# Altium footprint library AMSMQTT.PcbLib: 6 footprints
Each footprint in its own frame and in the unit in brackets; x right, y up, seen from the top. Pads: shape width x height; smd on the part's side, far side on the other; paste and mask are expansions set on the pad; w line width, h text height; cw(c..) or ccw(c..) is an arc to the next point about the centre after c.
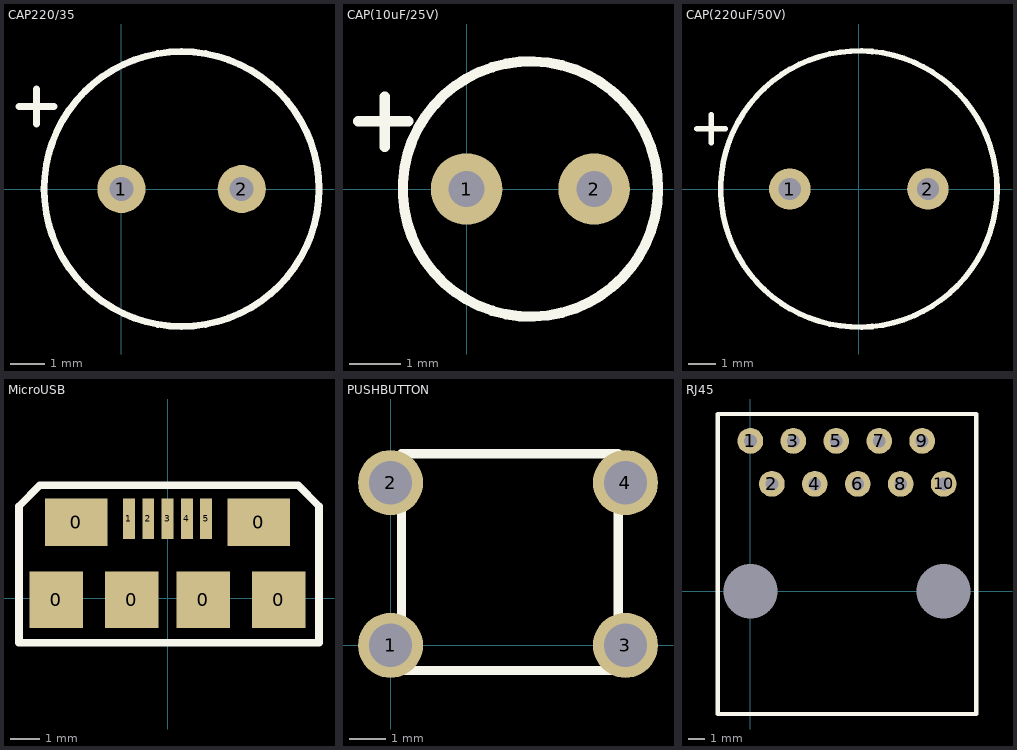
[diagram p0: the footprints below, top view; thin cyan lines are the x and y axes]

## CAP220/35 [mm]
pads (2):
  round 1.4 hole 0.7: 1(0,0) 2(3.5,0)
Top Overlay:
  circle w0.2: c1.75,0 r4
  lines w0.2: -2.983,2.4 -1.967,2.4 ; -2.475,1.892 -2.475,2.908
3D body: height 11.5, standoff 0, extent -2.2,-4 5.8,4

## CAP(10uF/25V) [mm]
pads (2):
  round 1.4 hole 0.7: 1(0,0) 2(2.5,0)
Top Overlay:
  circle w0.2: c1.25,0 r2.5
  lines w0.2: -2.125,1.325 -1.142,1.325 ; -1.6,0.825 -1.6,1.808
3D body: height 11, standoff 0, extent -1.225,-2.55 3.775,2.447

## CAP(220uF/50V) [mm]
pads (2):
  round 1.5 hole 0.8: 1(-2.5,0) 2(2.5,0)
Top Overlay:
  circle w0.2: c0,0 r5
  lines w0.2: -5.858,2.175 -4.842,2.175 ; -5.35,1.667 -5.35,2.683
3D body: height 12.5, standoff 0, extent -5,-5 5,5

## MicroUSB [mm] "MicroUSB B Connector"
pads (11):
  rect 1.8x1.9 smd: 0(-3.75,-0.05) 0(-1.2,-0.05) 0(1.2,-0.05) 0(3.75,-0.05)
  rect 2.1x1.6 smd: 0(-3.075,2.55) 0(3.075,2.55)
  rect 0.4x1.35 smd: 1(-1.3,2.675) 2(-0.65,2.675) 3(0,2.675) 4(0.65,2.675) 5(1.3,2.675)
Top Overlay:
  lines w0.254: 5,-1.5 -5,-1.5 -5,3.1 -4.3,3.8 4.4,3.8 5.1,3.1 5.1,-1.5
3D body "473460001.stp": height 2.67, standoff -0.27, extent -3.99,-2.18 3.99,3.25

## PUSHBUTTON [mm]
pads (4):
  round 1.8 hole 1.2: 1(0,0) 2(0,4.5) 3(6.5,0) 4(6.5,4.5)
Top Overlay:
  lines w0.254: 0.3,-0.7 6.3,-0.7 6.3,5.3 0.3,5.3 0.3,-0.7

## RJ45 [mil] "RJ45 Jack 10Pin"
height 500
pads (12):
  round 0 hole 125.98: 0(0,0) 0(450,0)
  round 60 hole 29.92: 1(0,350) 2(50,250) 3(100,350) 4(150,250) 5(200,350) 6(250,250) 7(300,350) 8(350,250) 9(400,350) 10(450,250)
Top Overlay:
  lines w10: -76.18,-285.83 526.18,-285.83 526.18,412.6 -76.18,412.6 -76.18,-285.83